# EAGLE library part INA282 (library SparkFun-PowerIC)
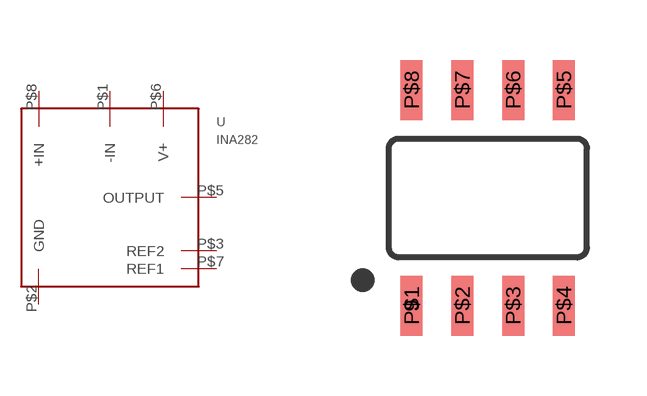
[diagram p44: symbol with the pads of SOP8; footprint SOP8]

Designator prefix -

## INA282  [SOP8]
P$1  -IN
P$2  GND
P$3  REF2
P$5  OUTPUT
P$6  V+
P$7  REF1
P$8  +IN

## Footprint SOP8 (pad centres in mm)
8M, 8-Lead, 0.118" Wide, Miniature Small Outline Package MSOP 8M-Package doc1097.pdf
smd 0.55 x 1.5: 9 -1.905,-2.7; P$1 -1.905,-2.7; P$2 -0.635,-2.7; P$3 0.635,-2.7; P$4 1.905,-2.7; P$5 1.905,2.7; P$6 0.635,2.7; P$7 -0.635,2.7; P$8 -1.905,2.7